# EAGLE library part CP2200 (library Jim)
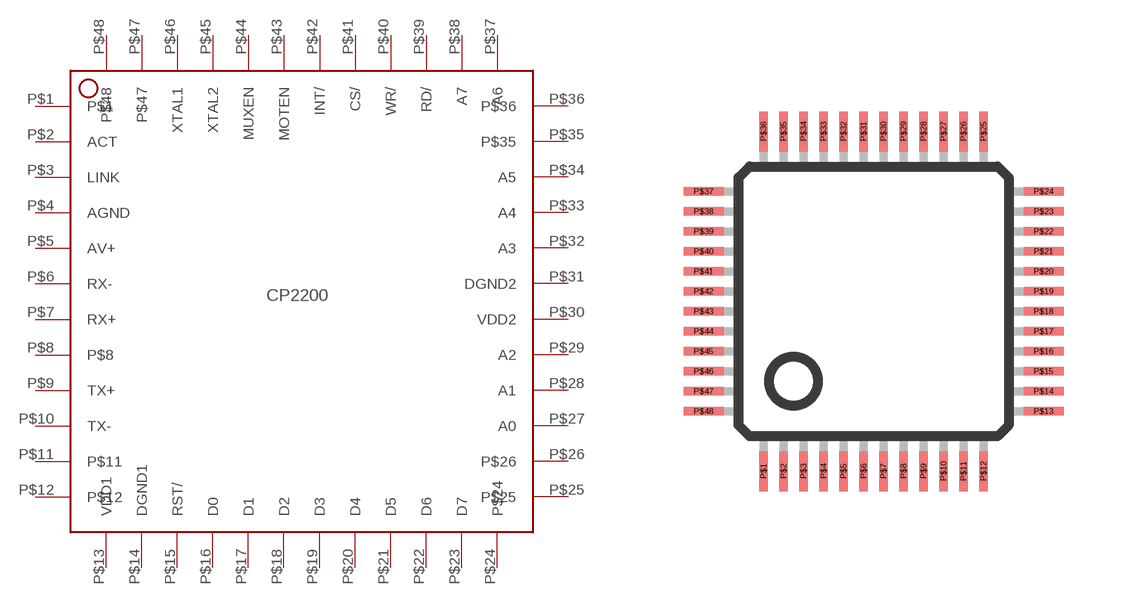
[diagram p13: symbol with the pads of MQFP48; footprint MQFP48]

Designator prefix -

## CP2200  [MQFP48]
P$1  P$1  nc
P$2  ACT
P$3  LINK
P$4  AGND  pwr
P$5  AV+  pwr
P$6  RX-
P$7  RX+
P$8  P$8  nc
P$9  TX+
P$10  TX-
P$11  P$11  nc
P$12  P$12  nc
P$13  VDD1  pwr
P$14  DGND1  pwr
P$15  RST/
P$16  D0
P$17  D1
P$18  D2
P$19  D3
P$20  D4
P$21  D5
P$22  D6
P$23  D7
P$24  P$24  nc
P$25  P$25  nc
P$26  P$26  nc
P$27  A0
P$28  A1
P$29  A2
P$30  VDD2  pwr
P$31  DGND2  pwr
P$32  A3
P$33  A4
P$34  A5
P$35  P$35  nc
P$36  P$36  nc
P$37  A6
P$38  A7
P$39  RD/
P$40  WR/
P$41  CS/
P$42  INT/
P$43  MOTEN
P$44  MUXEN
P$45  XTAL2
P$46  XTAL1
P$47  P$47  nc
P$48  P$48  nc

## Footprint MQFP48 (pad centres in mm)
Metric QFP, 48 pin, pad 0.22 x 1.00 mm, 0.5 mm pitch.
smd 0.22 x 1: P$1 -2.75,-4.25; P$2 -2.25,-4.25; P$3 -1.75,-4.25; P$4 -1.25,-4.25; P$5 -0.75,-4.25; P$6 -0.25,-4.25; P$7 0.25,-4.25; P$8 0.75,-4.25; P$9 1.25,-4.25; P$10 1.75,-4.25; P$11 2.25,-4.25; P$12 2.75,-4.25; P$25 2.75,4.25; P$26 2.25,4.25; P$27 1.75,4.25; P$28 1.25,4.25; P$29 0.75,4.25; P$30 0.25,4.25; P$31 -0.25,4.25; P$32 -0.75,4.25; P$33 -1.25,4.25; P$34 -1.75,4.25; P$35 -2.25,4.25; P$36 -2.75,4.25
smd 1 x 0.22: P$13 4.25,-2.75; P$14 4.25,-2.25; P$15 4.25,-1.75; P$16 4.25,-1.25; P$17 4.25,-0.75; P$18 4.25,-0.25; P$19 4.25,0.25; P$20 4.25,0.75; P$21 4.25,1.25; P$22 4.25,1.75; P$23 4.25,2.25; P$24 4.25,2.75; P$37 -4.25,2.75; P$38 -4.25,2.25; P$39 -4.25,1.75; P$40 -4.25,1.25; P$41 -4.25,0.75; P$42 -4.25,0.25; P$43 -4.25,-0.25; P$44 -4.25,-0.75; P$45 -4.25,-1.25; P$46 -4.25,-1.75; P$47 -4.25,-2.25; P$48 -4.25,-2.75